# EAGLE library part CR1000X-PROTO_WURTH_ELEKTRONIK_ELECTROMECHANIC_TERMINAL_BLOCKS_CONNECTORS_REV19D_691311500018 (library CR1000X MUX)
WR-TBL Serie 311 - 5.08 mm Open Vertical PCB Header , 18 Pins=>Code : Con_TBL_Pluggable_5.08_PCB_THT_Simple_V_691311500018 <http://katalog.we-online.de/media/images/eican/Con_TBL_Pluggable_5.08_PCB_THT_Simple_V_6913115000xx_pf2.jpg> Details see: http://katalog.we-online.de/en/em/TBL_5_08_311_OPEN_VERTICAL_PCB_HEADER_6913115000XX Created 2014-06-23, Karrer Zheng 2014 (C) Würth Elektronik
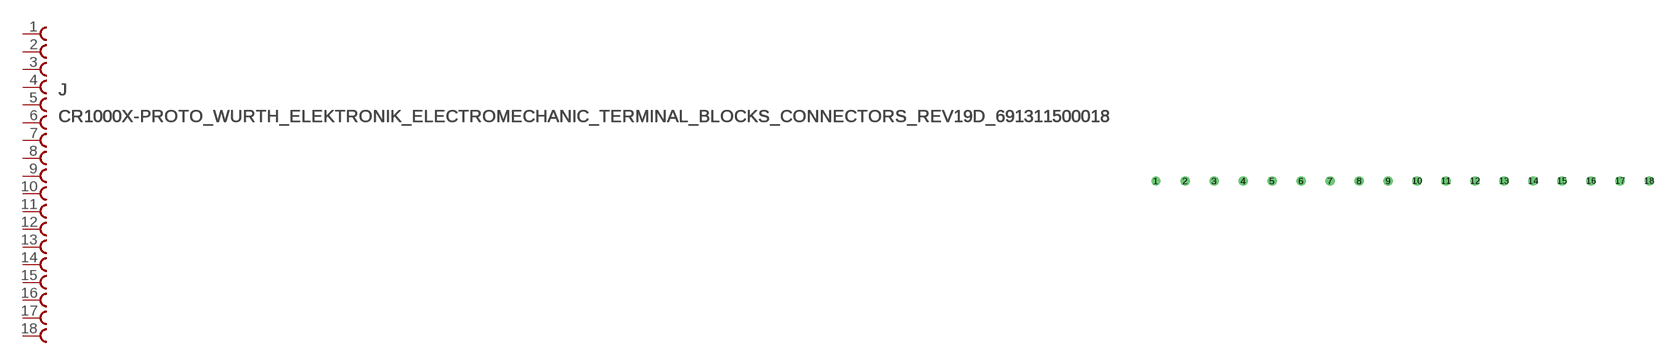
[diagram p0: symbol with the pads of CR1000X-PROTO_WURTH_ELEKTRONIK_ELECTROMECHANIC_TERMINAL_BLOCKS_CONNECTORS_REV19D_691311500018; footprint CR1000X-PROTO_WURTH_ELEKTRONIK_ELECTROMECHANIC_TERMINAL_BLOCKS_CONNECTORS_REV19D_691311500018]

Designator prefix J

## CR1000X-PROTO_WURTH_ELEKTRONIK_ELECTROMECHANIC_TERMINAL_BLOCKS_CONNECTORS_REV19D_691311500018  [CR1000X-PROTO_WURTH_ELEKTRONIK_ELECTROMECHANIC_TERMINAL_BLOCKS_CONNECTORS_REV19D_691311500018]
1  1  pas
2  2  pas
3  3  pas
4  4  pas
5  5  pas
6  6  pas
7  7  pas
8  8  pas
9  9  pas
10  10  pas
11  11  pas
12  12  pas
13  13  pas
14  14  pas
15  15  pas
16  16  pas
17  17  pas
18  18  pas

## Footprint CR1000X-PROTO_WURTH_ELEKTRONIK_ELECTROMECHANIC_TERMINAL_BLOCKS_CONNECTORS_REV19D_691311500018 (pad centres in mm)
WR-TBL Serie 311 - 5.08 mm Open Vertical PCB Header , 18 Pins
drill 1.1: 1 -43.18,0; 2 -38.1,0; 3 -33.02,0; 4 -27.94,0; 5 -22.86,0; 6 -17.78,0; 7 -12.7,0; 8 -7.62,0; 9 -2.54,0; 10 2.54,0; 11 7.62,0; 12 12.7,0; 13 17.78,0; 14 22.86,0; 15 27.94,0; 16 33.02,0; 17 38.1,0; 18 43.18,0